# Altium footprint library 3528.PcbLib: 1 footprints
Each footprint in its own frame and in the unit in brackets; x right, y up, seen from the top. Pads: shape width x height; smd on the part's side, far side on the other; paste and mask are expansions set on the pad; w line width, h text height; cw(c..) or ccw(c..) is an arc to the next point about the centre after c.
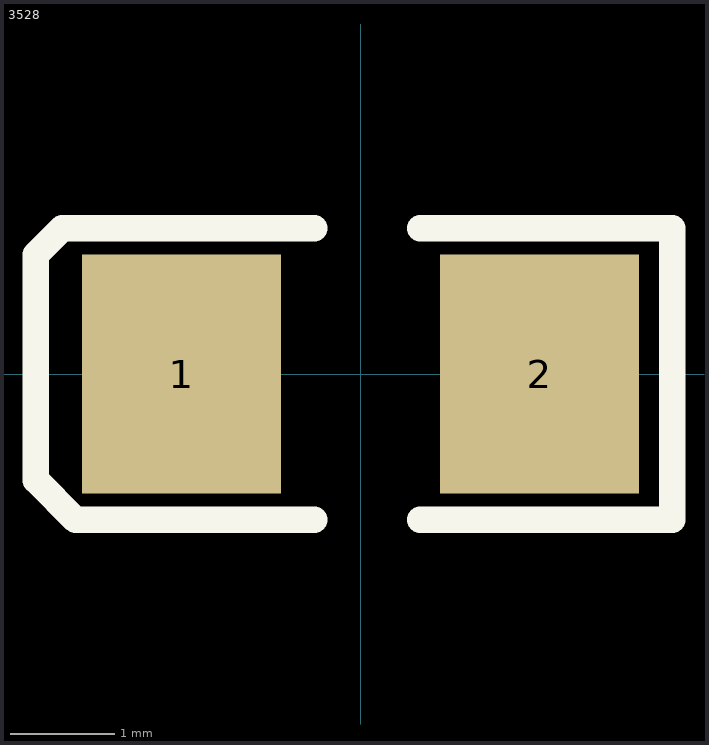
[diagram p0: the footprint, top view; thin cyan lines are the x and y axes]

## 3528 [mil] "5.33mm*2.28mm"
pads (2):
  rect 75x90 smd: 1(-67.5,0) 2(67.5,0)
Top Overlay:
  lines w10: -17.5,-55 -107.5,-55 -122.5,-40 -122.5,45 -112.5,55 -17.5,55 ; 22.5,-55 117.5,-55 117.5,55 22.5,55